# Altium footprint library quectel_lc29h.PcbLib: 2 footprints
Each footprint in its own frame and in the unit in brackets; x right, y up, seen from the top. Pads: shape width x height; smd on the part's side, far side on the other; paste and mask are expansions set on the pad; w line width, h text height; cw(c..) or ccw(c..) is an arc to the next point about the centre after c.
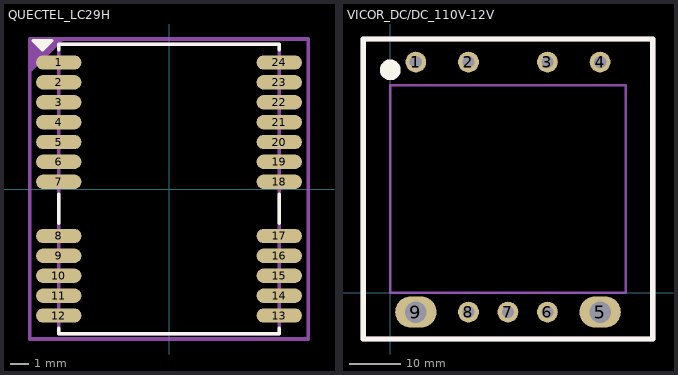
[diagram p0: the footprints below, top view; thin cyan lines are the x and y axes]

## QUECTEL_LC29H [mm]
height 2.5
pads (24):
  oval 2.5x0.8 smd: 1(-6.1,7) 2(-6.1,5.9) 3(-6.1,4.8) 4(-6.1,3.7) 5(-6.1,2.6) 6(-6.1,1.5) 7(-6.1,0.4) 8(-6.1,-2.6) 9(-6.1,-3.7) 10(-6.1,-4.8) 11(-6.1,-5.9) 12(-6.1,-7) 13(6.1,-7) 14(6.1,-5.9) 15(6.1,-4.8) 16(6.1,-3.7) 17(6.1,-2.6) 18(6.1,0.4) 19(6.1,1.5) 20(6.1,2.6) 21(6.1,3.7) 22(6.1,4.8) 23(6.1,5.9) 24(6.1,7)
Top Overlay:
  region: -7,7.7 -6.5,8.2 -7.5,8.2
  lines w0.2: -6.1,-7.7 -6.1,-8 6.1,-8 6.1,-7.7 ; -6.1,-1.9 -6.1,-0.3 ; -6.1,7.7 -6.1,8 6.1,8 6.1,7.7 ; 6.1,-1.9 6.1,-0.3 ; -7.5,8.2 -7,7.7 -6.5,8.2 -7.5,8.2
Top 3D Body:
  lines w0.2: -6.1,-8 -6.1,8 6.1,8 6.1,-8 -6.1,-8
Top Courtyard:
  region: -7.7,8.3 -5.8,8.3 -7.7,6.4
  lines w0.2: -7.7,-8.3 -7.7,8.3 7.7,8.3 7.7,-8.3 -7.7,-8.3
Top Designator (Mech17):
  text ".Designator" at -0.9,-0.167 h0.4
3D body "LC29H--3DModel-STEP-269445.STEP": height 2.51, standoff 0.01, extent -6.1,-8 6.1,8

## VICOR_DC/DC_110V-12V [mm] "Long Style"
pads (9):
  round 4 hole 2.39: 1(4.95,44.51) 2(15.11,44.51) 3(30.35,44.51) 4(40.51,44.51) 6(30.35,-3.748) 7(22.73,-3.748) 8(15.11,-3.75)
  oval 8x6 hole 4.16: 5(40.51,-3.75) 9(4.95,-3.75)
Top Overlay:
  circle w2: c0,43 r1
  lines w1: -5.205,-8.955 50.675,-8.955 50.675,48.955 -5.205,48.955 -5.205,-8.955
Top 3D Body:
  lines w0.5: 0,0 45.47,0 45.47,40.04 0,40.04 0,0
Top Courtyard:
  lines w1: -5.205,-8.955 -5.205,48.955 50.675,48.955 50.675,-8.955 -5.205,-8.955
3D body: height 13.5, standoff 0, extent 0,0.04 45.47,40.04